# Altium schematic symbol library S3B-XH-SM4-TB_LF__SN_.SchLib: 1 symbol
Pins are listed as number, name and electrical type; pins without a type are passive.

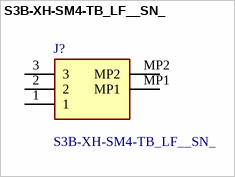
[diagram p0: symbol S3B-XH-SM4-TB_LF__SN_]

## S3B-XH-SM4-TB_LF__SN_
designator J?
JST (JAPAN SOLDERLESS TERMINALS) - S3B-XH-SM4-TB(LF)(SN) - CONNECTOR, HEADER, 3POS, 2.5MM, 1ROW; Geometry.Height: 6mm; Mouser Part Number: N/A; Mouser Price/Stock: https://www.mouser.co.uk/ProductDetail/JST-Commercial/S3B-XH-SM4-TBLFSN?qs=QpmGXVUTftEPeYXS9B3zjQ%3D%3D; Manufacturer_Name: JST (JAPAN SOLDERLESS TERMINALS); Manufacturer_Part_Number: S3B-XH-SM4-TB(LF)(SN); Datasheet Link: https://www.jst-mfg.com/product/pdf/eng/eXH.pdf
footprint S3BXHSM4TBLFSN
pins: 1, 2, 3, MP1, MP2